# EAGLE library part FTR-K1 (library relais)
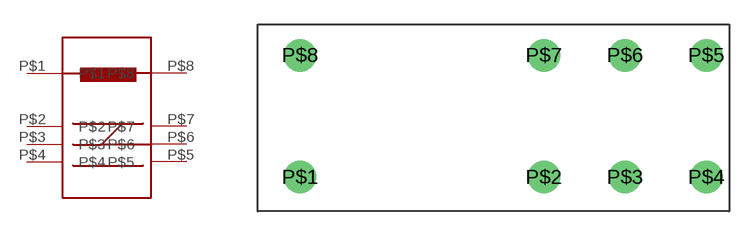
[diagram p0: symbol with the pads of FTR-K1; footprint FTR-K1]

Designator prefix -

## FTR-K1  [FTR-K1]
P$1  P$1
P$2  P$2
P$3  P$3
P$4  P$4
P$5  P$5
P$6  P$6
P$7  P$7
P$8  P$8

## Footprint FTR-K1 (pad centres in mm)
drill 1.2 pad 2 round: P$1 -25,0; P$2 -10,0; P$3 -5,0; P$4 0,0; P$5 0,7.5; P$6 -5,7.5; P$7 -10,7.5; P$8 -25,7.5